# EAGLE library part TPS2114A/5A (library BaseApp)
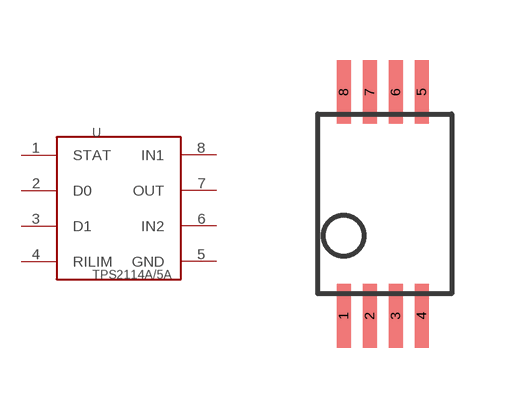
[diagram p98: symbol with the pads of TSSOP8; footprint TSSOP8]

Designator prefix -

## TPS2114A/5A  [TSSOP8]
1  STAT
2  D0
3  D1
4  RILIM
5  GND
6  IN2
7  OUT
8  IN1

## Footprint TSSOP8 (pad centres in mm)
smd 0.35 x 1.6: 1 -0.7,-2.9; 2 -0.05,-2.9; 3 0.6,-2.9; 4 1.25,-2.9; 5 1.25,2.7; 6 0.6,2.7; 7 -0.05,2.7; 8 -0.7,2.7